# EAGLE library part LED_DRIVER_TLC5952DAP (library GTOR - Active Components)
24-Channel Constant-Current LED Driver with Global Brightness and LED Open Short Detection Source: Datasheet <http://www.ti.com/lit/gpn/tlc5952>
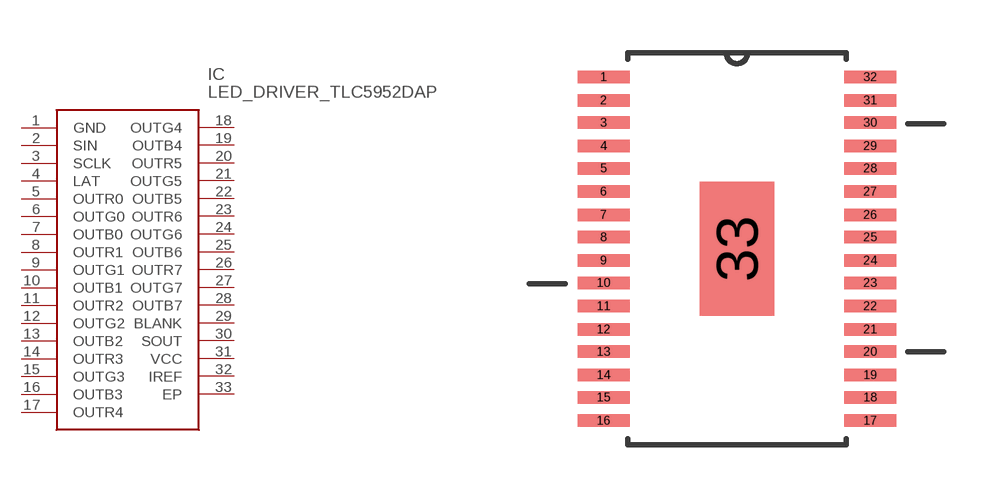
[diagram p15: symbol with the pads of SOP65P810X120-33N; footprint SOP65P810X120-33N]

Designator prefix IC

## LED_DRIVER_TLC5952DAP (ARROW_PART_NUMBER: TLC5952DAP; ARROW_PRICE-STOCK: https://www.arrow.com/en/products/tlc5952dap/texas-instruments; DESCRIPTION: 24-Channel Constant-Current LED Driver with Global Brightness and LED Open Short Detection; HEIGHT: mm; MANUFACTURER_NAME: Texas Instruments; MANUFACTURER_PART_NUMBER: TLC5952DAP; MOUSER_PART_NUMBER: 595-TLC5952DAP; MOUSER_PRICE-STOCK: https://www.mouser.co.uk/ProductDetail/Texas-Instruments/TLC5952DAP?qs=IK5e5L0zOXhuADcxoTQ%252BEg%3D%3D)  [SOP65P810X120-33N]
1  GND
2  SIN
3  SCLK
4  LAT
5  OUTR0
6  OUTG0
7  OUTB0
8  OUTR1
9  OUTG1
10  OUTB1
11  OUTR2
12  OUTG2
13  OUTB2
14  OUTR3
15  OUTG3
16  OUTB3
17  OUTR4
18  OUTG4
19  OUTB4
20  OUTR5
21  OUTG5
22  OUTB5
23  OUTR6
24  OUTG6
25  OUTB6
26  OUTR7
27  OUTG7
28  OUTB7
29  BLANK
30  SOUT
31  VCC
32  IREF
33  EP

## Footprint SOP65P810X120-33N (pad centres in mm)
SOP65P810X120-33N
smd 1.473 x 0.356: 1 -3.785,4.877; 2 -3.785,4.216; 3 -3.785,3.581; 4 -3.785,2.921; 5 -3.785,2.286; 6 -3.785,1.626; 7 -3.785,0.965; 8 -3.785,0.33; 9 -3.785,-0.33; 10 -3.785,-0.965; 11 -3.785,-1.626; 12 -3.785,-2.286; 13 -3.785,-2.921; 14 -3.785,-3.581; 15 -3.785,-4.216; 16 -3.785,-4.877; 17 3.785,-4.877; 18 3.785,-4.216; 19 3.785,-3.581; 20 3.785,-2.921; 21 3.785,-2.286; 22 3.785,-1.626; 23 3.785,-0.965; 24 3.785,-0.33; 25 3.785,0.33; 26 3.785,0.965; 27 3.785,1.626; 28 3.785,2.286; 29 3.785,2.921; 30 3.785,3.581; 31 3.785,4.216; 32 3.785,4.877
smd 2.108 x 3.81: 33 0,0